# Altium schematic symbol library 74HC4067PW,118.SchLib: 2 symbols
Pins are listed as number, name and electrical type; pins without a type are passive.

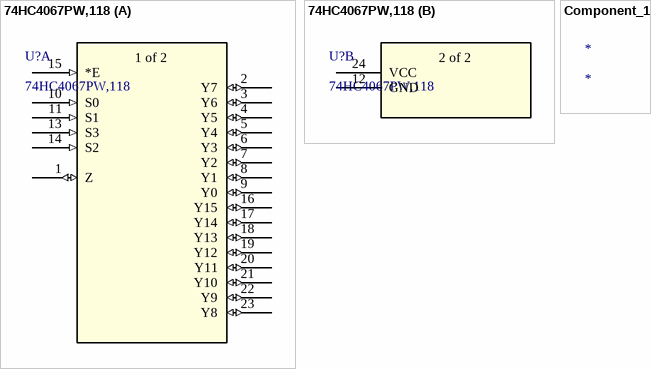
[diagram p0: symbols 74HC4067PW,118 to Component_1]

## 74HC4067PW,118
designator U?
No Description Available; Mfr_Name: Nexperia; Copyright: Copyright (C) 2022 Ultra Librarian. All rights reserved.; Manufacturer_Part_Number: 74HC4067PW,118; Digi-Key_Part_Number_1: 1727-2042-2-ND; Digi-Key_Part_Number_2: 1727-2042-1-ND; Digi-Key_Part_Number_3: 1727-2042-6-ND; RefDes: RefDes; Type: DEV
footprint TSSOP24_SOT355-1_NEX
part A pins: 1 Z (io), 2 Y7 (io), 3 Y6 (io), 4 Y5 (io), 5 Y4 (io), 6 Y3 (io), 7 Y2 (io), 8 Y1 (io), 9 Y0 (io), 10 S0 (in), 11 S1 (in), 13 S3 (in), 14 S2 (in), 15 *E (in), 16 Y15 (io), 17 Y14 (io), 18 Y13 (io), 19 Y12 (io), 20 Y11 (io), 21 Y10 (io), 22 Y9 (io), 23 Y8 (io)
part B pins: 12 GND, 24 VCC (power)
part A text: 1 of 2
part B text: 2 of 2

## Component_1
designator *